# Altium footprint library PHOENIX_1991105.PcbLib: 1 footprints
Each footprint in its own frame and in the unit in brackets; x right, y up, seen from the top. Pads: shape width x height; smd on the part's side, far side on the other; paste and mask are expansions set on the pad; w line width, h text height; cw(c..) or ccw(c..) is an arc to the next point about the centre after c.
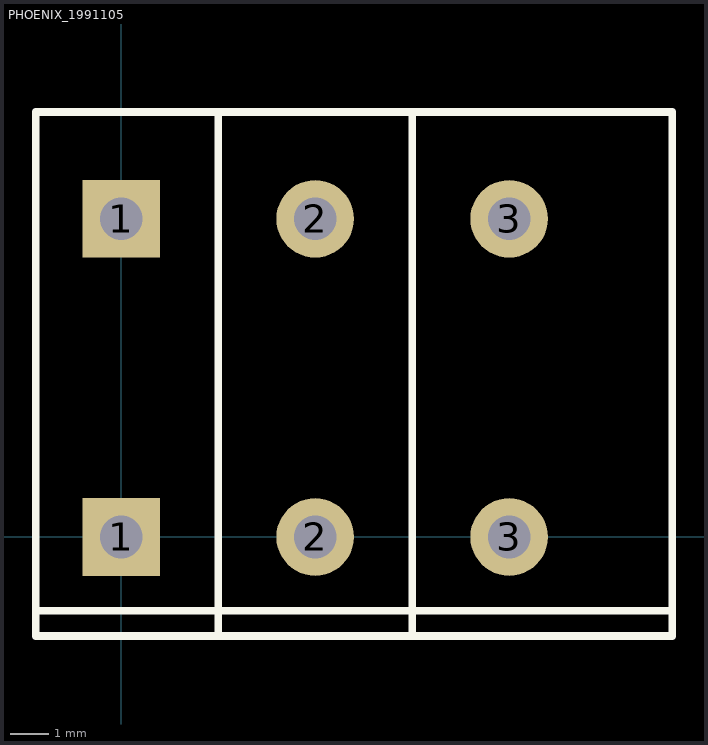
[diagram p0: the footprint, top view; thin cyan lines are the x and y axes]

## PHOENIX_1991105 [mm]
pads (6):
  rect 2x2 hole 1.1: 1(0,0) 1(0,8.2)
  round 2 hole 1.1: 2(5,0) 2(5,8.2) 3(10,0) 3(10,8.2)
Top Overlay:
  lines w0.2: -2.2,-1.9 14.2,-1.9 ; 2.5,-2.5 2.5,10.95 ; 7.5,-2.55 -2.2,-2.55 -2.2,10.95 7.5,10.95 ; 7.5,-2.55 7.5,10.95 ; 7.5,-2.55 14.2,-2.55 14.2,10.95 7.5,10.95
3D body "PHOENIX_1991105.stp": height 14.43, standoff -2.56, extent -2.2,-2.528 14.2,10.972